# EAGLE library part TLP521 (library FP-21T for MITS)
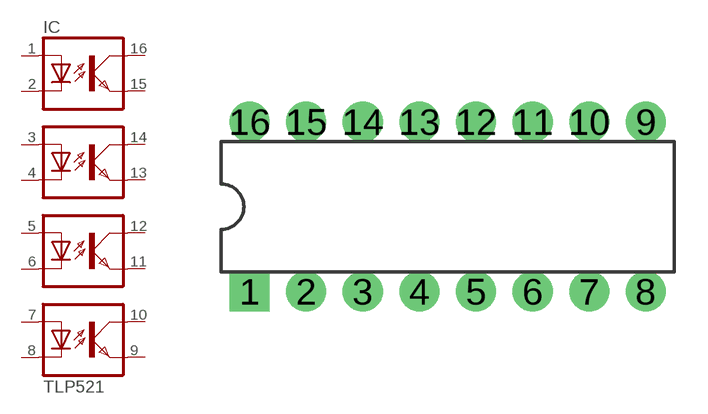
[diagram p4: symbol with the pads of DIL16; footprint DIL16]

Designator prefix IC

## TLP521  [DIL16]
1  A0  pas
2  C0  pas
3  A1  pas
4  C1  pas
5  A2  pas
6  C2  pas
7  A3  pas
8  C3  pas
9  EMIT3  pas
10  COL3  pas
11  EMIT2  pas
12  COL2  pas
13  EMIT1  pas
14  COL1  pas
15  EMIT0  pas
16  COL0  pas

## Footprint DIL16 (pad centres in mm)
Dual In Line Package
drill 1 pad 1.8 square: 1 -8.89,-3.81
drill 1 pad 1.8: 2 -6.35,-3.81; 3 -3.81,-3.81; 4 -1.27,-3.81; 5 1.27,-3.81; 6 3.81,-3.81; 7 6.35,-3.81; 8 8.89,-3.81; 9 8.89,3.81; 10 6.35,3.81; 11 3.81,3.81; 12 1.27,3.81; 13 -1.27,3.81; 14 -3.81,3.81; 15 -6.35,3.81; 16 -8.89,3.81